# Altium footprint library LM2599T-ADJ.PcbLib: 2 footprints
Each footprint in its own frame and in the unit in brackets; x right, y up, seen from the top. Pads: shape width x height; smd on the part's side, far side on the other; paste and mask are expansions set on the pad; w line width, h text height; cw(c..) or ccw(c..) is an arc to the next point about the centre after c.
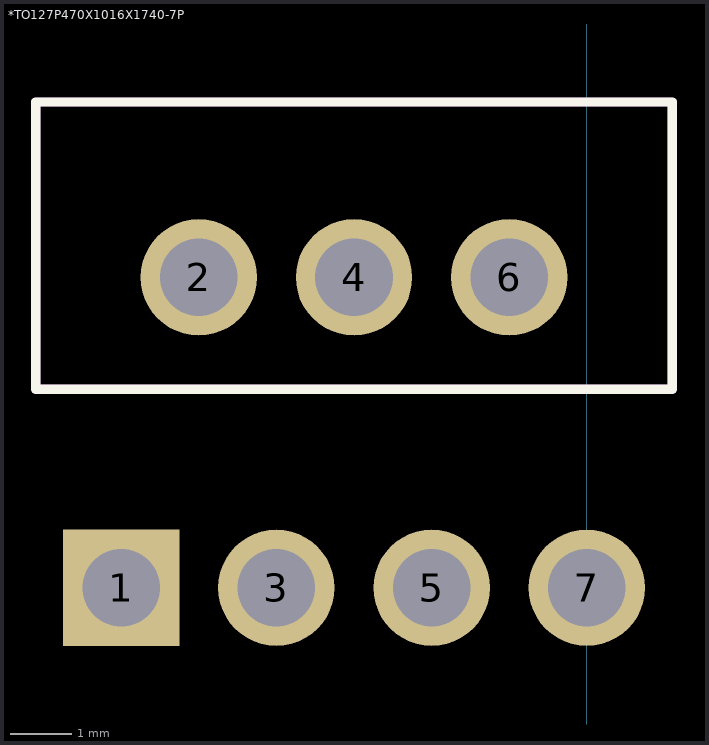
[diagram p0: the footprints below, top view; thin cyan lines are the x and y axes]

## *TO127P470X1016X1740-7P [mil]
pads (7):
  rect 75x75 hole 50: 1(-300,-441)
  round 75 hole 50: 2(-250,-241) 3(-200,-441) 4(-150,-241) 5(-100,-441) 6(-50,-241) 7(0,-441)
Top Overlay:
  lines w6: -355,-313 -355,-128 55,-128 55,-313 -355,-313
Mechanical 13:
  lines w6: -355,-313 -355,-128 ; -355,-313 55,-313 ; -355,-313 -355,-128 ; -355,-313 55,-313 ; -355,-128 55,-128 ; -355,-128 55,-128 ; 55,-313 55,-128 ; 55,-313 55,-128

## PCBComponent_1 [mil]